# Altium footprint library Res.PcbLib: 2 footprints
Each footprint in its own frame and in the unit in brackets; x right, y up, seen from the top. Pads: shape width x height; smd on the part's side, far side on the other; paste and mask are expansions set on the pad; w line width, h text height; cw(c..) or ccw(c..) is an arc to the next point about the centre after c.
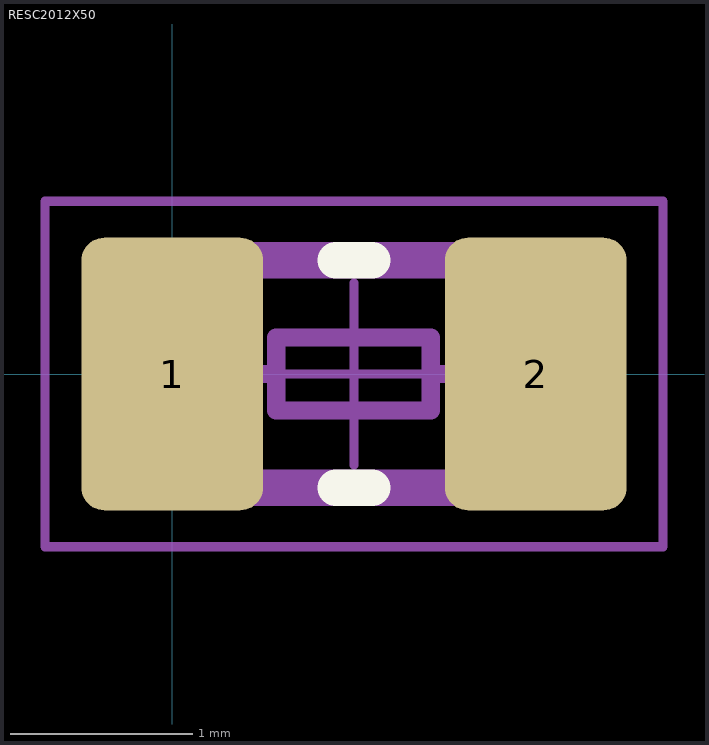
[diagram p0: the footprints below, top view; thin cyan lines are the x and y axes]

## PCBComponent_1 [mm]

## RESC2012X50 [mm] "Chip Resistor, EIA 0805, Metric 2012, Body 2.0x1.2mm, IPC Medium Density"
height 0.5
pads (2):
  rrect25% 1x1.5 smd: 1(0,0) 2(2,0)
Top Overlay:
  lines w0.2: 0.9,-0.625 1.1,-0.625 ; 0.9,0.625 1.1,0.625
Mechanical 14:
  lines w0.1: 0.322,0 0.572,0 ; 1.422,0 1.672,0 ; 0.572,-0.2 1.422,-0.2 1.422,0.2 0.572,0.2 0.572,-0.2
  lines w0.2: 0,-0.625 0,0.625 2,0.625 2,-0.625 0,-0.625
Mechanical 15:
  lines w0.05: 0.5,0 1.5,0 ; 1,-0.5 1,0.5 ; -0.7,-0.95 2.7,-0.95 2.7,0.95 -0.7,0.95 -0.7,-0.95
3D body: height 0.5, standoff 0, extent 0,-0.625 2,0.625